# Altium footprint library Temp_Sensor_Pcb.PcbLib: 9 footprints
Each footprint in its own frame and in the unit in brackets; x right, y up, seen from the top. Pads: shape width x height; smd on the part's side, far side on the other; paste and mask are expansions set on the pad; w line width, h text height; cw(c..) or ccw(c..) is an arc to the next point about the centre after c.
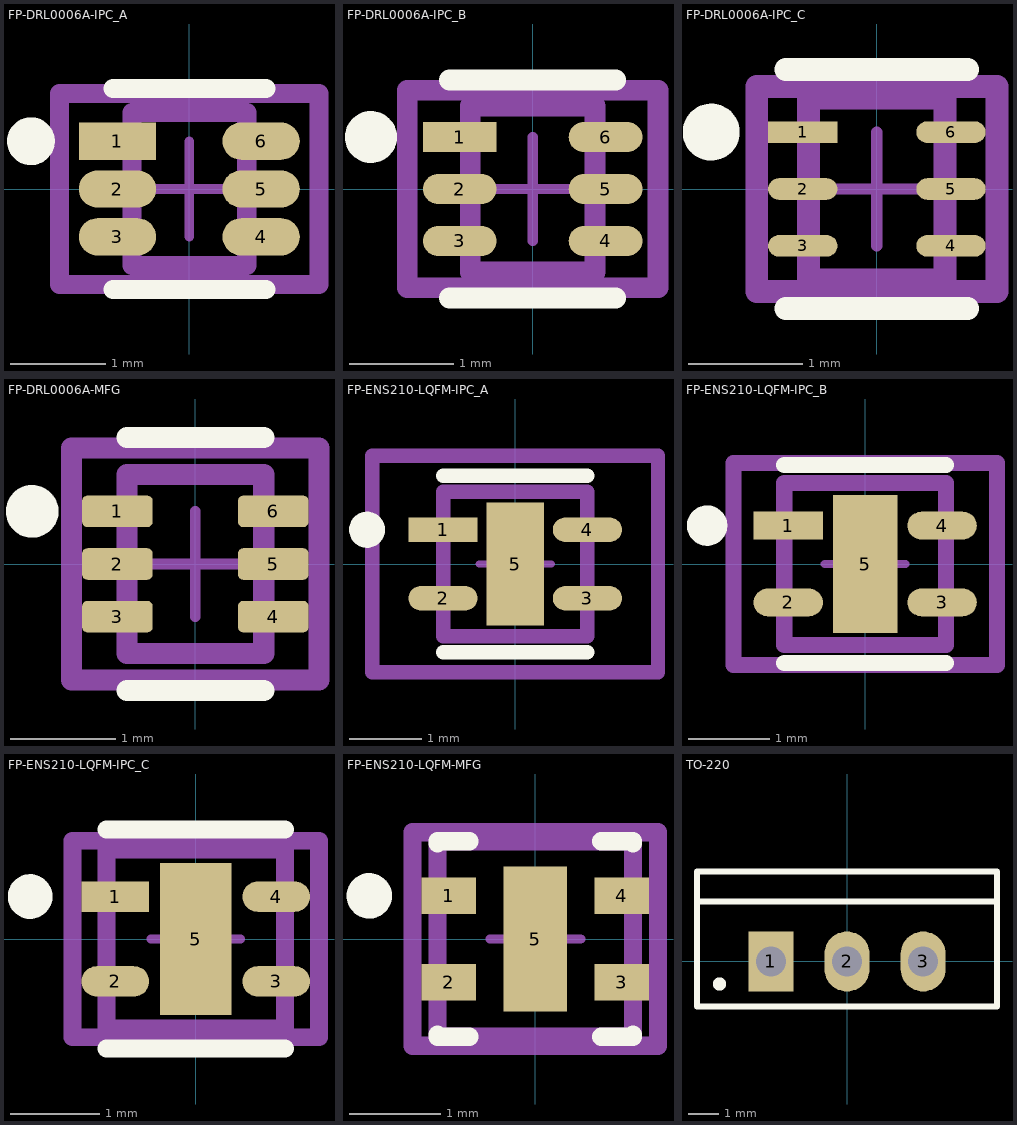
[diagram p0: the footprints below, top view; thin cyan lines are the x and y axes]

## FP-DRL0006A-IPC_A [mm]
pads (6):
  rect 0.81x0.389 smd paste+0 mask+0: 1(-0.751,0.5)
  rrect100% 0.81x0.389 smd paste+0 mask+0: 2(-0.751,0) 3(-0.751,-0.5) 4(0.751,-0.5) 5(0.751,0) 6(0.751,0.5)
Top Overlay:
  circle w0.25: c-1.656,0.5 r0.125
  lines w0.2: -0.8,-1.05 0.8,-1.05 ; -0.8,1.05 0.8,1.05
Mechanical 5:
  lines w0.2: -1.356,-1 1.356,-1 1.356,1 -1.356,1 -1.356,-1
  text ".Designator" at 0,0.188 h1
Mechanical 13:
  lines w0.2: -0.6,-0.8 0.6,-0.8 0.6,0.8 -0.6,0.8 -0.6,-0.8
Mechanical 15:
  lines w0.2: -1.356,-1 1.356,-1 1.356,1 -1.356,1 -1.356,-1
Mechanical 16:
  lines w0.1: -0.5,0 0.5,0 ; 0,-0.5 0,0.5
3D body "IC_Texas_Instruments_TMP112AQDRLRQ1_eec.STEP": height 0.25, standoff 0, extent -1.356,-1 1.356,1

## FP-DRL0006A-IPC_B [mm]
pads (6):
  rect 0.71x0.289 smd paste+0 mask+0: 1(-0.701,0.5)
  rrect100% 0.71x0.289 smd paste+0 mask+0: 2(-0.701,0) 3(-0.701,-0.5) 4(0.701,-0.5) 5(0.701,0) 6(0.701,0.5)
Top Overlay:
  circle w0.25: c-1.556,0.5 r0.125
  lines w0.2: -0.8,-1.05 0.8,-1.05 ; -0.8,1.05 0.8,1.05
Mechanical 5:
  lines w0.2: -1.206,-0.95 -1.206,0.95 1.206,0.95 1.206,-0.95 -1.206,-0.95
  text ".Designator" at 0,0.188 h1
Mechanical 13:
  lines w0.2: -0.6,-0.8 -0.6,0.8 0.6,0.8 0.6,-0.8 -0.6,-0.8
Mechanical 15:
  lines w0.2: -1.206,-0.95 -1.206,0.95 1.206,0.95 1.206,-0.95 -1.206,-0.95
Mechanical 16:
  lines w0.1: -0.5,0 0.5,0 ; 0,-0.5 0,0.5
3D body "IC_Texas_Instruments_TMP112AQDRLRQ1_eec.STEP": height 0.25, standoff 0, extent -1.206,-0.95 1.206,0.95

## FP-DRL0006A-IPC_C [mil]
pads (6):
  rect 24x7.45 smd paste+0 mask+0: 1(-25.64,19.68)
  rrect100% 24x7.45 smd paste+0 mask+0: 2(-25.64,0) 3(-25.64,-19.69) 4(25.64,-19.69) 5(25.64,0) 6(25.64,19.68)
Top Overlay:
  circle w9.84: c-57.33,19.68 r4.92
  lines w7.87: -31.5,-41.34 31.5,-41.34 ; -31.5,41.34 31.5,41.34
Mechanical 5:
  lines w7.87: -41.58,-35.43 -41.58,35.43 41.58,35.43 41.58,-35.43 -41.58,-35.43
  text ".Designator" at 0,7.39 h39.37
Mechanical 13:
  lines w7.87: -23.62,-31.5 -23.62,31.5 23.62,31.5 23.62,-31.5 -23.62,-31.5
Mechanical 15:
  lines w7.87: -41.58,-35.43 -41.58,35.43 41.58,35.43 41.58,-35.43 -41.58,-35.43
Mechanical 16:
  lines w3.94: -19.68,0 19.68,0 ; 0,-19.68 0,19.68
3D body "IC_Texas_Instruments_TMP112AQDRLRQ1_eec.STEP": height 10, standoff 0, extent -41.58,-35.43 41.58,35.43

## FP-DRL0006A-MFG [mm]
pads (6):
  rrect33% 0.67x0.3 smd paste+0 mask+0: 1(-0.74,0.5) 2(-0.74,0) 3(-0.74,-0.5) 4(0.74,-0.5) 5(0.74,0) 6(0.74,0.5)
Top Overlay:
  circle w0.25: c-1.55,0.5 r0.125
  lines w0.2: -0.65,-1.2 0.65,-1.2 ; -0.65,1.2 0.65,1.2
Mechanical 5:
  lines w0.2: -1.175,-1.1 -1.175,1.1 1.175,1.1 1.175,-1.1 -1.175,-1.1
  text ".Designator" at 0,0.188 h1
Mechanical 13:
  lines w0.2: -0.65,-0.85 -0.65,0.85 0.65,0.85 0.65,-0.85 -0.65,-0.85
Mechanical 15:
  lines w0.2: -1.175,-1.1 -1.175,1.1 1.175,1.1 1.175,-1.1 -1.175,-1.1
Mechanical 16:
  lines w0.1: -0.5,0 0.5,0 ; 0,-0.5 0,0.5
3D body "IC_Texas_Instruments_TMP112AQDRLRQ1_eec.STEP": height 0.25, standoff 0, extent -1.175,-1.1 1.175,1.1

## FP-ENS210-LQFM-IPC_A [mm]
pads (5):
  rect 0.958x0.342 smd paste+0 mask+0: 1(-1,0.475)
  rrect100% 0.958x0.342 smd paste+0 mask+0: 2(-1,-0.475) 3(1,-0.475) 4(1,0.475)
  rect 0.8x1.7 smd paste-1000 mask+0: 5(0,0)
Top Overlay:
  circle w0.25: c-2.054,0.475 r0.125
  lines w0.2: -1,-1.225 1,-1.225 ; -1,1.225 1,1.225
Top Paste:
  rectangle: -0.207,-0.657 0.207,0.657
Mechanical 5:
  lines w0.2: -1.979,-1.5 -1.979,1.5 1.979,1.5 1.979,-1.5 -1.979,-1.5
  text ".Designator" at 0,-0.001 h1
Mechanical 13:
  lines w0.2: -1,-1 -1,1 1,1 1,-1 -1,-1
Mechanical 15:
  lines w0.2: -1.979,-1.5 -1.979,1.5 1.979,1.5 1.979,-1.5 -1.979,-1.5
Mechanical 16:
  lines w0.1: -0.5,0 0.5,0 ; 0,-0.5 0,0.5
3D body "IC_ams_ENS210-LQFM_eec.STEP": height 0.25, standoff 0, extent -1.979,-1.5 1.979,1.5

## FP-ENS210-LQFM-IPC_B [mm]
pads (5):
  rect 0.858x0.342 smd paste+0 mask+0: 1(-0.95,0.475)
  rrect100% 0.858x0.342 smd paste+0 mask+0: 2(-0.95,-0.475) 3(0.95,-0.475) 4(0.95,0.475)
  rect 0.8x1.7 smd paste-1000 mask+0: 5(0,0)
Top Overlay:
  circle w0.25: c-1.954,0.475 r0.125
  lines w0.2: -1,-1.225 1,-1.225 ; -1,1.225 1,1.225
Top Paste:
  rectangle: -0.207,-0.657 0.207,0.657
Mechanical 5:
  lines w0.2: -1.629,-1.25 1.629,-1.25 1.629,1.25 -1.629,1.25 -1.629,-1.25
  text ".Designator" at 0,-0.001 h1
Mechanical 13:
  lines w0.2: -1,-1 1,-1 1,1 -1,1 -1,-1
Mechanical 15:
  lines w0.2: -1.629,-1.25 1.629,-1.25 1.629,1.25 -1.629,1.25 -1.629,-1.25
Mechanical 16:
  lines w0.1: -0.5,0 0.5,0 ; 0,-0.5 0,0.5
3D body "IC_ams_ENS210-LQFM_eec.STEP": height 0.25, standoff 0, extent -1.629,-1.25 1.629,1.25

## FP-ENS210-LQFM-IPC_C [mm]
pads (5):
  rect 0.758x0.342 smd paste+0 mask+0: 1(-0.9,0.475)
  rrect100% 0.758x0.342 smd paste+0 mask+0: 2(-0.9,-0.475) 3(0.9,-0.475) 4(0.9,0.475)
  rect 0.8x1.7 smd paste-1000 mask+0: 5(0,0)
Top Overlay:
  circle w0.25: c-1.854,0.475 r0.125
  lines w0.2: -1,-1.225 1,-1.225 ; -1,1.225 1,1.225
Top Paste:
  rectangle: -0.207,-0.657 0.207,0.657
Mechanical 5:
  lines w0.2: -1.379,-1.1 1.379,-1.1 1.379,1.1 -1.379,1.1 -1.379,-1.1
  text ".Designator" at 0,-0.001 h1
Mechanical 13:
  lines w0.2: -1,-1 1,-1 1,1 -1,1 -1,-1
Mechanical 15:
  lines w0.2: -1.379,-1.1 1.379,-1.1 1.379,1.1 -1.379,1.1 -1.379,-1.1
Mechanical 16:
  lines w0.1: -0.5,0 0.5,0 ; 0,-0.5 0,0.5
3D body "IC_ams_ENS210-LQFM_eec.STEP": height 0.25, standoff 0, extent -1.379,-1.1 1.379,1.1

## FP-ENS210-LQFM-MFG [mm]
pads (5):
  rect 0.6x0.4 smd paste-1000 mask+0: 1(-0.95,0.475) 2(-0.95,-0.475) 3(0.95,-0.475) 4(0.95,0.475)
  rect 0.7x1.6 smd paste-1000 mask+0: 5(0,0)
Top Overlay:
  circle w0.25: c-1.825,0.475 r0.125
  lines w0.2: -1.075,-1.05 -1.075,-1.075 -0.725,-1.075 ; -1.075,1.05 -1.075,1.075 -0.725,1.075 ; 0.725,-1.075 1.075,-1.075 1.075,-1.05 ; 0.725,1.075 1.075,1.075 1.075,1.05
Top Paste:
  rectangle: -0.175,-0.4 0.175,0.4
  rectangle: -1.2,-0.625 -0.7,-0.325
  rectangle: -1.2,0.325 -0.7,0.625
  rectangle: 0.7,0.325 1.2,0.625
  rectangle: 0.7,-0.625 1.2,-0.325
Mechanical 5:
  lines w0.2: -1.35,-1.175 1.35,-1.175 1.35,1.175 -1.35,1.175 -1.35,-1.175
  text ".Designator" at 0,0.188 h1
Mechanical 13:
  lines w0.2: -1.075,-1.075 1.075,-1.075 1.075,1.075 -1.075,1.075 -1.075,-1.075
Mechanical 15:
  lines w0.2: -1.35,-1.175 1.35,-1.175 1.35,1.175 -1.35,1.175 -1.35,-1.175
Mechanical 16:
  lines w0.1: -0.5,0 0.5,0 ; 0,-0.5 0,0.5
3D body "IC_ams_ENS210-LQFM_eec.STEP": height 0.25, standoff 0, extent -1.35,-1.175 1.35,1.175

## TO-220 [mm]
pads (3):
  rect 1.5x2 hole 1: 1(-2.54,0)
  oval 1.5x2 hole 1: 2(0,0) 3(2.54,0)
Top Overlay:
  circle w0.3: c-4.25,-0.75 r0.071
  lines w0.2: -5,2 5,2 ; -5,-1.5 -5,0 -5,3 -3.5,3 4,3 5,3 5,0 5,-1.5 -5,-1.5
3D body "TO-220HS.step": height 17.73, standoff -4.62, extent -5.08,-1.524 5.08,3.048